# Altium footprint library LED.PcbLib: 9 footprints
Each footprint in its own frame and in the unit in brackets; x right, y up, seen from the top. Pads: shape width x height; smd on the part's side, far side on the other; paste and mask are expansions set on the pad; w line width, h text height; cw(c..) or ccw(c..) is an arc to the next point about the centre after c.
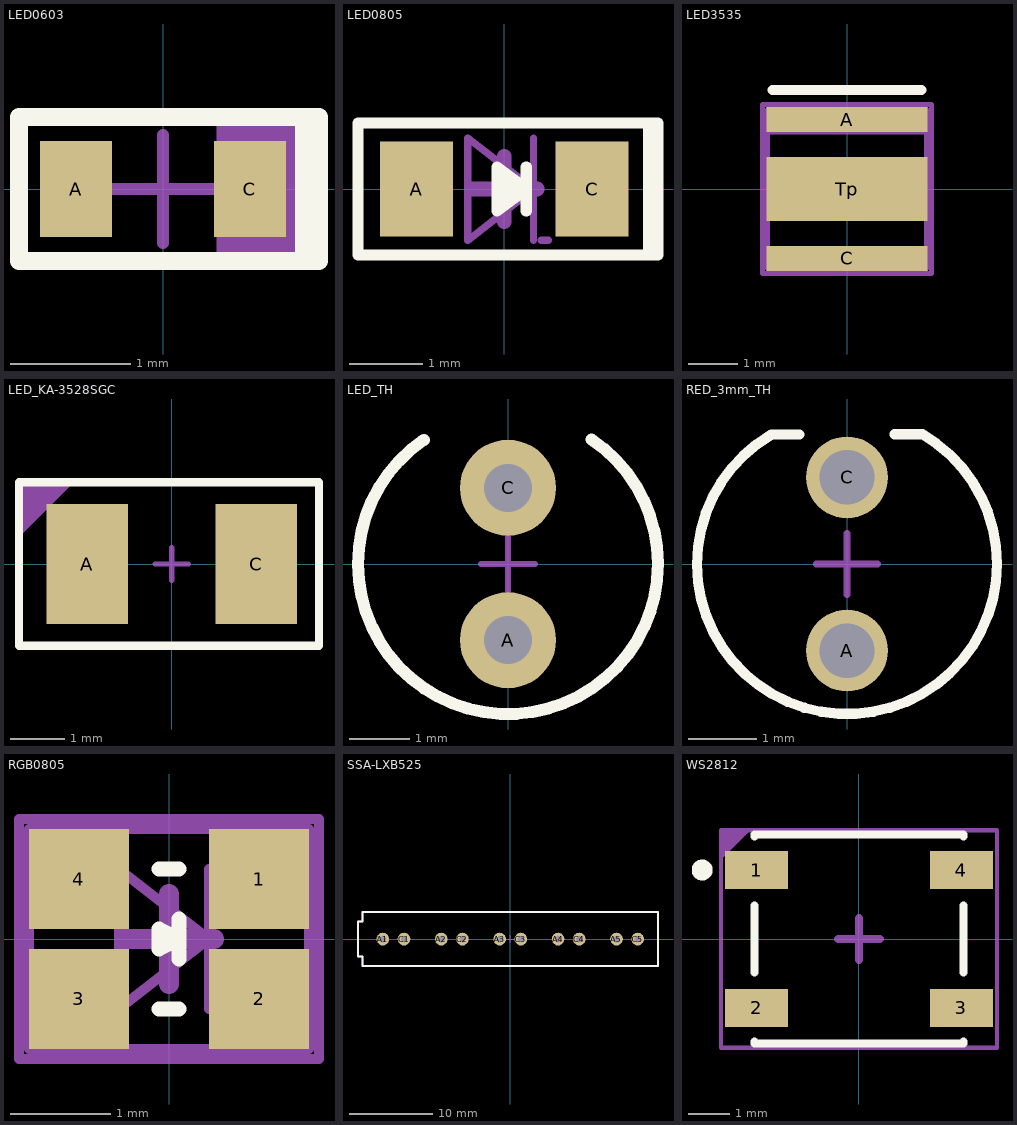
[diagram p0: the footprints below, top view; thin cyan lines are the x and y axes]

## LED0603 [mm]
pads (2):
  rect 0.6x0.8 smd: A(-0.725,0) C(0.725,0)
Top Overlay:
  region: 1.3,0.6 1.1,0.6 1.1,-0.6 1.3,-0.6
  lines w0.153: -1.2,-0.6 -1.2,0.6 1.3,0.6 1.3,-0.6 -1.2,-0.6
Top Assembly:
  region: 1.3,0.6 0.45,0.6 0.45,-0.6 1.3,-0.6
  lines w0.1: -1.2,-0.6 1.3,-0.6 1.3,0.6 -1.2,0.6 -1.2,-0.6
  text "'.Designator'" at -4.582,-1.233 h0.8
Top Courtyard:
  lines w0.1: -0.45,0 0.45,0 ; 0,-0.45 0,0.45 ; -1.2,-0.6 1.3,-0.6 1.3,0.6 -1.2,0.6 -1.2,-0.6
3D body "WL-SMCW_0603_LED.stp": height 0.7, standoff 0, extent -0.8,-0.4 0.8,0.4

## LED0805 [mm]
pads (2):
  rect 1x1.3 smd: A(-1.2,0) C(1.2,0)
Top Overlay:
  region: -0.1,0.3 -0.1,-0.3 0,-0.3 0.3,0
  region: 2.1,0.85 1.9,0.85 1.9,-0.85 2.1,-0.85
  lines w0.153: 0.3,-0.3 0.3,0.3 ; -2,-0.9 2.1,-0.9 2.1,0.9 -2,0.9 -2,-0.9 ; -0.1,-0.3 -0.1,0.3 0.3,0 -0.1,-0.3
Top Assembly:
  lines w0.1: 0.398,-0.702 0.398,-0.002 ; 0.398,0.698 0.398,-0.002 ; 0.5,-0.7 0.6,-0.7 ; 0.398,-0.002 -0.502,-0.702 -0.502,0.698 0.398,-0.002 ; -2,-0.9 2.1,-0.9 2.1,0.9 -2,0.9 -2,-0.9
  text "'.Designator'" at -4.532,-0.333 h0.8
Top Courtyard:
  lines w0.1: -2,-0.9 -2,0.9 2.1,0.9 2.1,-0.9 -2,-0.9
  lines w0.2: -0.45,0 0.45,0 ; 0,-0.45 0,0.45
3D body "ALSRobot-LED0805(G).STEP": height 1.1, standoff 0, extent -1.01,-0.625 1.01,0.625

## LED3535 [mm]
pads (3):
  rect 3.25x0.5 smd: A(0,1.4) C(0,-1.4)
  rect 3.25x1.3 smd: Tp(0,0)
Top Overlay:
  lines w0.2: -1.5,2 1.5,2
Top Assembly:
  rectangle: -1.6,1.1 1.6,1.6
  lines w0.1: -1.6,-1.6 1.6,-1.6 1.6,1.6 -1.6,1.6 -1.6,-1.6
  text "'.Designator'" at -4.532,-0.333 h0.8
Top Courtyard:
  lines w0.1: -0.45,0 0.45,0 ; 0,-0.45 0,0.45 ; -1.7,-1.7 1.7,-1.7 1.7,1.7 -1.7,1.7 -1.7,-1.7
3D body "ltpa-c3535bwp.STEP": height 1.69, standoff -0.44, extent -1.725,-1.725 1.725,1.725

## LED_KA-3528SGC [mm]
pads (2):
  rect 1.5x2.2 smd: A(-1.55,0) C(1.55,0)
Top Overlay:
  lines w0.153: -2.8,-1.5 -2.8,1.5 -2.5,1.5 2.7,1.5 2.7,-1.5 -2.8,-1.5
  text "." at -3.367,-0.067 h0.8
Top Assembly:
  region: -2.8,1.5 -1.8,1.5 -2.8,0.5
  lines w0.1: -2.8,-1.5 -2.8,1.5 2.7,1.5 2.7,-1.5 -2.8,-1.5
  text "'.Designator'" at -4.532,-0.333 h0.8
Top Courtyard:
  lines w0.1: -0.3,0 0.3,0 ; 0,-0.3 0,0.3 ; -2.8,-1.5 2.7,-1.5 2.7,1.5 -2.8,1.5 -2.8,-1.5
3D body "KA-3528SGC.stp": height 2.1, standoff 0, extent -1.75,-1.4 1.75,1.4

## LED_TH [mm]
pads (2):
  round 1.6 hole 0.8: A(0,-1.27) C(0,1.27)
Top Overlay:
  lines w0.2: -1.403,2.069 ccw(c0,0) 1.392,2.076
Top Assembly:
  lines w0.1: -1.382,2.083 ccw(c0,0) 1.369,2.092
  text "'.Designator'" at -4.532,-0.333 h0.8
Top Courtyard:
  lines w0.1: -1.382,2.083 ccw(c0,0) 1.369,2.092 ; -0.45,0 0.45,0 ; 0,-0.45 0,0.45
3D body "LED DIP 3MM.step": height 5.8, standoff -1.6, extent -1.889,-1.888 1.889,1.6

## RED_3mm_TH [mm]
pads (2):
  round 1.2 hole 0.8: A(0,-1.27) C(0,1.27)
Top Overlay:
  lines w0.15: -0.7,1.9 -1.109,1.9 ccw(c0,0) 1.105,1.903 0.7,1.903
Top Assembly:
  lines w0.1: -1.216,1.833 ccw(c0,0) 1.204,1.841
  text "'.Designator'" at -4.532,-0.333 h0.8
Top Courtyard:
  lines w0.1: -1.216,1.833 ccw(c0,0) 1.204,1.841 ; -0.45,0 0.45,0 ; 0,-0.45 0,0.45
3D body "3mm LED.STEP": height 7.3, standoff -6.5, extent -1.93,-1.93 1.93,1.52

## RGB0805 [mm]
pads (4):
  rect 1x1 smd: 1(0.9,0.6) 2(0.9,-0.6) 3(-0.9,-0.6) 4(-0.9,0.6)
Top Overlay:
  lines w0.15: 0.1,-0.2 0.1,0.2 ; -0.1,-0.1 -0.1,0.1 0.1,0 -0.1,-0.1
  lines w0.153: -0.1,-0.7 0.1,-0.7 ; -0.1,0.7 0.1,0.7
  text "." at 1.694,1.043 h4
Top Assembly:
  lines w0.1: 0.398,-0.702 0.398,-0.002 ; 0.398,0.698 0.398,-0.002 ; 0.398,-0.002 -0.502,0.698 -0.502,-0.702 0.398,-0.002 ; -1.5,-1.2 -1.5,1.2 1.5,1.2 1.5,-1.2 -1.5,-1.2
  text "'.Designator'" at -4.532,1.767 h0.8
Top Courtyard:
  lines w0.1: -1.4,-1.1 1.4,-1.1 1.4,1.1 -1.4,1.1 -1.4,-1.1
  lines w0.2: -0.45,0 0.45,0 ; 0,-0.45 0,0.45
3D body "ALSRobot-LED0805(G).STEP": height 1.1, standoff 0, extent -1.01,-0.625 1.01,0.625

## SSA-LXB525 [mil]
pads (10):
  round 60 hole 30: A1(-601.18,0) A2(-325.59,0) A3(-50,0) A4(225.59,0) A5(501.18,0) C1(-501.18,0) C2(-225.59,0) C3(50,0) C4(325.59,0) C5(601.18,0)
Top Overlay:
  lines w10: -718.31,-82.68 -718.31,83.66 -696.65,83.66 -696.65,127.95 697.05,127.95 697.05,-126.97 -696.65,-126.97 -696.65,-82.68 -718.31,-82.68
Top Assembly:
  lines w10: -718.31,-82.68 -718.31,83.66 -696.65,83.66 -696.65,127.95 697.05,127.95 697.05,-126.97 -696.65,-126.97 -696.65,-82.68 -718.31,-82.68
  text "'.Designator'" at -713.46,154.31 h31.5
Top Courtyard:
  lines w3.94: -17.72,0 17.72,0 ; 0,-17.72 0,17.72
  lines w10: -718.31,-82.68 -718.31,83.66 -696.65,83.66 -696.65,127.95 697.05,127.95 697.05,-126.97 -696.65,-126.97 -696.65,-82.68 -718.31,-82.68
3D body "User Library-lumex ssa-lxb525gd.STEP": height 330.71, standoff -984.25, extent -708.47,-120.08 689.17,120.08

## WS2812 [mm]
pads (4):
  rect 1.5x0.9 smd: 1(-2.448,1.65) 2(-2.448,-1.65) 3(2.452,-1.65) 4(2.452,1.65)
Top Overlay:
  circle w0.25: c-3.748,1.65 r0.125
  lines w0.2: -2.498,-2.45 -2.498,-2.5 2.502,-2.5 2.502,-2.45 ; -2.498,-0.8 -2.498,0.8 ; -2.498,2.45 -2.498,2.5 2.502,2.5 2.502,2.45 ; 2.502,-0.8 2.502,0.8
Top Assembly:
  region: -3.3,2.6 -2.6,2.6 -3.3,1.9
  lines w0.1: -3.3,-2.6 3.3,-2.6 3.3,2.6 -3.3,2.6 -3.3,-2.6
  text "'.Designator'" at -4.532,-0.333 h0.8
Top Courtyard:
  lines w0.1: -3.298,-2.6 -3.298,2.6 3.302,2.6 3.302,-2.6 -3.298,-2.6
  lines w0.2: -0.498,0 0.502,0 ; 0.002,-0.5 0.002,0.5
3D body "User Library-WS2812B.STEP": height 1.68, standoff -0.02, extent -2.698,-2.5 2.702,2.5